# EAGLE library part TP4056 (library eload_powermeter)
edit this description Auto generated by make-symbol-device-package-bsdl.ulp Rev. 44 Source:
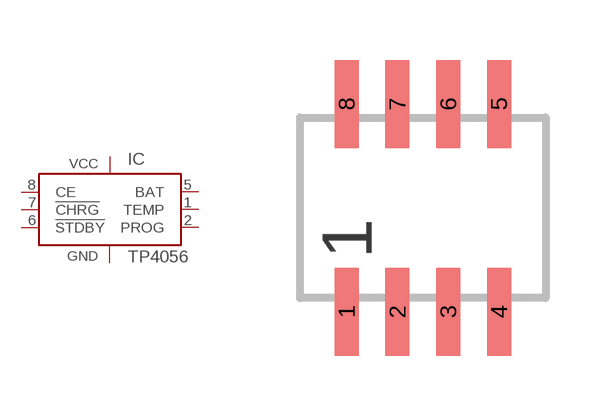
[diagram p2: symbol with the pads of SOP08; footprint SOP08]

Designator prefix IC

## TP4056  [SOP08]
1  TEMP  in
2  PROG  in
3  GND  sup
4  VCC  sup
5  BAT  in
6  !STDBY  out
7  !CHRG  out
8  CE  in

## Footprint SOP08 (pad centres in mm)
SMALL OUTLINE PACKAGE
smd 0.6 x 2.2: 1 -1.905,-2.6; 2 -0.635,-2.6; 3 0.635,-2.6; 4 1.905,-2.6; 5 1.905,2.6; 6 0.635,2.6; 7 -0.635,2.6; 8 -1.905,2.6